# Altium schematic symbol library jlcpcb_2025_04_ferrites_extended_1806.schlib: 23 symbols
Pins are listed as number, name and electrical type; pins without a type are passive.

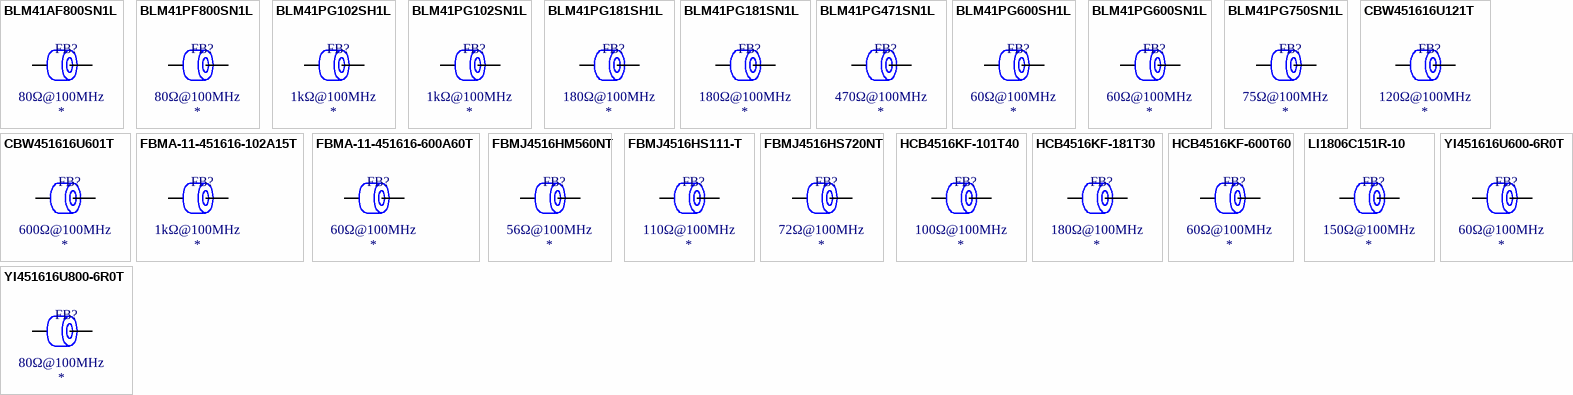
[diagram p0: symbols BLM41AF800SN1L to YI451616U800-6R0T]

## BLM41AF800SN1L
designator FB?  Impedance @ Frequency: 80Ω@100MHz
Ferrite, 80Ω@100MHz, ±25%, SMD 1806; Manufacturer: Murata Electronics; Manufacturer Part Number: BLM41AF800SN1L; Package Size: 1806; JLCPCB Basic Part: No; JLCPCB Part Number: C88998; Supplier 1: LCSC; Category: Ferrite Beads; Supplier Part Number 1: C88998; Tolerance: ±25%; RoHS: Yes; ComponentLink1Description: Datasheet; ComponentLink1URL: https://wmsc.lcsc.com/wmsc/upload/file/pdf/v2/lcsc/2008241132_Murata-Electronics-BLM41AF800SN1L_C88998.pdf; ComponentLink2Description: JLCPCB Part URL; ComponentLink2URL: https://jlcpcb.com/partdetail/C88998; ComponentLink3Description: LCSC Part URL; ComponentLink3URL: https://lcsc.com/product-detail/Ferrite-Beads_Murata-Electronics-Murata-Electronics-BLM41AF800SN1L_C88998.html
pins: 1, 2

## BLM41PF800SN1L
designator FB?  Impedance @ Frequency: 80Ω@100MHz
Ferrite, 80Ω@100MHz, ±25%, 10mΩ, 1A, SMD 1806; Manufacturer: Murata Electronics; Manufacturer Part Number: BLM41PF800SN1L; Package Size: 1806; JLCPCB Basic Part: No; JLCPCB Part Number: C85842; Supplier 1: LCSC; Category: Ferrite Beads; Supplier Part Number 1: C85842; Tolerance: ±25%; Rated Current: 1A; DC Resistance: 10mΩ; RoHS: Yes; ComponentLink1Description: Datasheet; ComponentLink1URL: https://wmsc.lcsc.com/wmsc/upload/file/pdf/v2/lcsc/1810071632_Murata-Electronics-BLM41PF800SN1L_C85842.pdf; ComponentLink2Description: JLCPCB Part URL; ComponentLink2URL: https://jlcpcb.com/partdetail/C85842; ComponentLink3Description: LCSC Part URL; ComponentLink3URL: https://lcsc.com/product-detail/Ferrite-Beads_Murata-Electronics-Murata-Electronics-BLM41PF800SN1L_C85842.html
footprint FB-1806 (1806 (4516M) Ferrite)
pins: 1, 2

## BLM41PG102SH1L
designator FB?  Impedance @ Frequency: 1kΩ@100MHz
Ferrite, 1kΩ@100MHz, ±25%, 90mΩ, 1.5A, SMD 1806; Manufacturer: Murata Electronics; Manufacturer Part Number: BLM41PG102SH1L; Package Size: 1806; JLCPCB Basic Part: No; JLCPCB Part Number: C417120; Supplier 1: LCSC; Category: Ferrite Beads; Supplier Part Number 1: C417120; Tolerance: ±25%; Rated Current: 1.5A; DC Resistance: 90mΩ; RoHS: Yes; ComponentLink1Description: Datasheet; ComponentLink1URL: https://wmsc.lcsc.com/wmsc/upload/file/pdf/v2/lcsc/2001161131_Murata-Electronics-BLM41PG102SH1L_C417120.pdf; ComponentLink2Description: JLCPCB Part URL; ComponentLink2URL: https://jlcpcb.com/partdetail/C417120; ComponentLink3Description: LCSC Part URL; ComponentLink3URL: https://lcsc.com/product-detail/Ferrite-Beads_Murata-Electronics-Murata-Electronics-BLM41PG102SH1L_C417120.html
footprint FB-1806 (1806 (4516M) Ferrite)
pins: 1, 2

## BLM41PG102SN1L
designator FB?  Impedance @ Frequency: 1kΩ@100MHz
Ferrite, 1kΩ@100MHz, ±25%, 90mΩ, 1.5A, SMD 1806; Manufacturer: Murata Electronics; Manufacturer Part Number: BLM41PG102SN1L; Package Size: 1806; JLCPCB Basic Part: No; JLCPCB Part Number: C88999; Supplier 1: LCSC; Category: Ferrite Beads; Supplier Part Number 1: C88999; Tolerance: ±25%; Rated Current: 1.5A; DC Resistance: 90mΩ; RoHS: Yes; ComponentLink1Description: Datasheet; ComponentLink1URL: https://wmsc.lcsc.com/wmsc/upload/file/pdf/v2/lcsc/1808132354_Murata-Electronics-BLM41PG102SN1L_C88999.pdf; ComponentLink2Description: JLCPCB Part URL; ComponentLink2URL: https://jlcpcb.com/partdetail/C88999; ComponentLink3Description: LCSC Part URL; ComponentLink3URL: https://lcsc.com/product-detail/Ferrite-Beads_Murata-Electronics-Murata-Electronics-BLM41PG102SN1L_C88999.html
footprint FB-1806 (1806 (4516M) Ferrite)
pins: 1, 2

## BLM41PG181SH1L
designator FB?  Impedance @ Frequency: 180Ω@100MHz
Ferrite, 180Ω@100MHz, ±25%, 20mΩ, 3.5A, SMD 1806; Manufacturer: Murata Electronics; Manufacturer Part Number: BLM41PG181SH1L; Package Size: 1806; JLCPCB Basic Part: No; JLCPCB Part Number: C710526; Supplier 1: LCSC; Category: Ferrite Beads; Supplier Part Number 1: C710526; Tolerance: ±25%; Rated Current: 3.5A; DC Resistance: 20mΩ; RoHS: Yes; ComponentLink1Description: Datasheet; ComponentLink1URL: https://wmsc.lcsc.com/wmsc/upload/file/pdf/v2/lcsc/2101201911_Murata-Electronics-BLM41PG181SH1L_C710526.pdf; ComponentLink2Description: JLCPCB Part URL; ComponentLink2URL: https://jlcpcb.com/partdetail/C710526; ComponentLink3Description: LCSC Part URL; ComponentLink3URL: https://lcsc.com/product-detail/Ferrite-Beads_Murata-Electronics-Murata-Electronics-BLM41PG181SH1L_C710526.html
footprint FB-1806 (1806 (4516M) Ferrite)
pins: 1, 2

## BLM41PG181SN1L
designator FB?  Impedance @ Frequency: 180Ω@100MHz
Ferrite, 180Ω@100MHz, ±25%, 20mΩ, 3.5A, SMD 1806; Manufacturer: Murata Electronics; Manufacturer Part Number: BLM41PG181SN1L; Package Size: 1806; JLCPCB Basic Part: No; JLCPCB Part Number: C85843; Supplier 1: LCSC; Category: Ferrite Beads; Supplier Part Number 1: C85843; Tolerance: ±25%; Rated Current: 3.5A; DC Resistance: 20mΩ; RoHS: Yes; ComponentLink1Description: Datasheet; ComponentLink1URL: https://wmsc.lcsc.com/wmsc/upload/file/pdf/v2/lcsc/2304140030_Murata-Electronics-BLM41PG181SN1L_C85843.pdf; ComponentLink2Description: JLCPCB Part URL; ComponentLink2URL: https://jlcpcb.com/partdetail/C85843; ComponentLink3Description: LCSC Part URL; ComponentLink3URL: https://lcsc.com/product-detail/Ferrite-Beads_Murata-Electronics-Murata-Electronics-BLM41PG181SN1L_C85843.html
footprint FB-1806 (1806 (4516M) Ferrite)
pins: 1, 2

## BLM41PG471SN1L
designator FB?  Impedance @ Frequency: 470Ω@100MHz
Ferrite, 470Ω@100MHz, ±25%, 50mΩ, 2A, SMD 1806; Manufacturer: Murata Electronics; Manufacturer Part Number: BLM41PG471SN1L; Package Size: 1806; JLCPCB Basic Part: No; JLCPCB Part Number: C88220; Supplier 1: LCSC; Category: Ferrite Beads; Supplier Part Number 1: C88220; Tolerance: ±25%; Rated Current: 2A; DC Resistance: 50mΩ; RoHS: Yes; ComponentLink1Description: Datasheet; ComponentLink1URL: https://wmsc.lcsc.com/wmsc/upload/file/pdf/v2/lcsc/2304140030_Murata-Electronics-BLM41PG471SN1L_C88220.pdf; ComponentLink2Description: JLCPCB Part URL; ComponentLink2URL: https://jlcpcb.com/partdetail/C88220; ComponentLink3Description: LCSC Part URL; ComponentLink3URL: https://lcsc.com/product-detail/Ferrite-Beads_Murata-Electronics-Murata-Electronics-BLM41PG471SN1L_C88220.html
footprint FB-1806 (1806 (4516M) Ferrite)
pins: 1, 2

## BLM41PG600SH1L
designator FB?  Impedance @ Frequency: 60Ω@100MHz
Ferrite, 60Ω@100MHz, ±25%, 9mΩ, 6A, SMD 1806; Manufacturer: Murata Electronics; Manufacturer Part Number: BLM41PG600SH1L; Package Size: 1806; JLCPCB Basic Part: No; JLCPCB Part Number: C307594; Supplier 1: LCSC; Category: Ferrite Beads; Supplier Part Number 1: C307594; Tolerance: ±25%; Rated Current: 6A; DC Resistance: 9mΩ; RoHS: Yes; ComponentLink1Description: Datasheet; ComponentLink1URL: https://wmsc.lcsc.com/wmsc/upload/file/pdf/v2/lcsc/1810311511_Murata-Electronics-BLM41PG600SH1L_C307594.pdf; ComponentLink2Description: JLCPCB Part URL; ComponentLink2URL: https://jlcpcb.com/partdetail/C307594; ComponentLink3Description: LCSC Part URL; ComponentLink3URL: https://lcsc.com/product-detail/Ferrite-Beads_Murata-Electronics-Murata-Electronics-BLM41PG600SH1L_C307594.html
footprint FB-1806 (1806 (4516M) Ferrite)
pins: 1, 2

## BLM41PG600SN1L
designator FB?  Impedance @ Frequency: 60Ω@100MHz
Ferrite, 60Ω@100MHz, ±25%, 9mΩ, 6A, SMD 1806; Manufacturer: Murata Electronics; Manufacturer Part Number: BLM41PG600SN1L; Package Size: 1806; JLCPCB Basic Part: No; JLCPCB Part Number: C85844; Supplier 1: LCSC; Category: Ferrite Beads; Supplier Part Number 1: C85844; Tolerance: ±25%; Rated Current: 6A; DC Resistance: 9mΩ; RoHS: Yes; ComponentLink1Description: Datasheet; ComponentLink1URL: https://wmsc.lcsc.com/wmsc/upload/file/pdf/v2/lcsc/2304140030_Murata-Electronics-BLM41PG600SN1L_C85844.pdf; ComponentLink2Description: JLCPCB Part URL; ComponentLink2URL: https://jlcpcb.com/partdetail/C85844; ComponentLink3Description: LCSC Part URL; ComponentLink3URL: https://lcsc.com/product-detail/Ferrite-Beads_Murata-Electronics-Murata-Electronics-BLM41PG600SN1L_C85844.html
footprint FB-1806 (1806 (4516M) Ferrite)
pins: 1, 2

## BLM41PG750SN1L
designator FB?  Impedance @ Frequency: 75Ω@100MHz
Ferrite, 75Ω@100MHz, ±25%, 15mΩ, 3.5A, SMD 1806; Manufacturer: Murata Electronics; Manufacturer Part Number: BLM41PG750SN1L; Package Size: 1806; JLCPCB Basic Part: No; JLCPCB Part Number: C14586; Supplier 1: LCSC; Category: Ferrite Beads; Supplier Part Number 1: C14586; Tolerance: ±25%; Rated Current: 3.5A; DC Resistance: 15mΩ; RoHS: Yes; ComponentLink1Description: Datasheet; ComponentLink1URL: https://wmsc.lcsc.com/wmsc/upload/file/pdf/v2/lcsc/2304140030_Murata-Electronics-BLM41PG750SN1L_C14586.pdf; ComponentLink2Description: JLCPCB Part URL; ComponentLink2URL: https://jlcpcb.com/partdetail/C14586; ComponentLink3Description: LCSC Part URL; ComponentLink3URL: https://lcsc.com/product-detail/Ferrite-Beads_Murata-Electronics-Murata-Electronics-BLM41PG750SN1L_C14586.html
footprint FB-1806 (1806 (4516M) Ferrite)
pins: 1, 2

## CBW451616U121T
designator FB?  Impedance @ Frequency: 120Ω@100MHz
Ferrite, 120Ω@100MHz, ±25%, 100mΩ, 3A, SMD 1806; Manufacturer: FH (Guangdong Fenghua Advanced Tech); Manufacturer Part Number: CBW451616U121T; Package Size: 1806; JLCPCB Basic Part: No; JLCPCB Part Number: C5344415; Supplier 1: LCSC; Category: Ferrite Beads; Supplier Part Number 1: C5344415; Tolerance: ±25%; Rated Current: 3A; DC Resistance: 100mΩ; RoHS: Yes; ComponentLink1Description: Datasheet; ComponentLink1URL: https://wmsc.lcsc.com/wmsc/upload/file/pdf/v2/lcsc/2212281730_FH--Guangdong-Fenghua-Advanced-Tech-CBW451616U121T_C5344415.pdf; ComponentLink2Description: JLCPCB Part URL; ComponentLink2URL: https://jlcpcb.com/partdetail/C5344415; ComponentLink3Description: LCSC Part URL; ComponentLink3URL: https://lcsc.com/product-detail/Ferrite-Beads_FH-Guangdong-Fenghua-Advanced-Tech-FH-Guangdong-Fenghua-Advanced-Tech-CBW451616U121T_C5344415.html
footprint FB-1806 (1806 (4516M) Ferrite)
pins: 1, 2

## CBW451616U601T
designator FB?  Impedance @ Frequency: 600Ω@100MHz
Ferrite, 600Ω@100MHz, ±25%, 0.3Ω, 1000mA, SMD 1806; Manufacturer: FH (Guangdong Fenghua Advanced Tech); Manufacturer Part Number: CBW451616U601T; Package Size: 1806; JLCPCB Basic Part: No; JLCPCB Part Number: C5344420; Supplier 1: LCSC; Category: Ferrite Beads; Supplier Part Number 1: C5344420; Tolerance: ±25%; Rated Current: 1000mA; DC Resistance: 0.3Ω; RoHS: Yes; ComponentLink1Description: Datasheet; ComponentLink1URL: https://wmsc.lcsc.com/wmsc/upload/file/pdf/v2/lcsc/2212281730_FH--Guangdong-Fenghua-Advanced-Tech-CBW451616U601T_C5344420.pdf; ComponentLink2Description: JLCPCB Part URL; ComponentLink2URL: https://jlcpcb.com/partdetail/C5344420; ComponentLink3Description: LCSC Part URL; ComponentLink3URL: https://lcsc.com/product-detail/Ferrite-Beads_FH-Guangdong-Fenghua-Advanced-Tech-FH-Guangdong-Fenghua-Advanced-Tech-CBW451616U601T_C5344420.html
footprint FB-1806 (1806 (4516M) Ferrite)
pins: 1, 2

## FBMA-11-451616-102A15T
designator FB?  Impedance @ Frequency: 1kΩ@100MHz
Ferrite, 1kΩ@100MHz, ±25%, 90mΩ, 1.5A, SMD 1806; Manufacturer: Kingcore; Manufacturer Part Number: FBMA-11-451616-102A15T; Package Size: 1806; JLCPCB Basic Part: No; JLCPCB Part Number: C491656; Supplier 1: LCSC; Category: Ferrite Beads; Supplier Part Number 1: C491656; Tolerance: ±25%; Rated Current: 1.5A; DC Resistance: 90mΩ; RoHS: Yes; ComponentLink1Description: Datasheet; ComponentLink1URL: https://datasheet.lcsc.com/lcsc/2003182012_Kingcore-FBMA-11-451616-102A15T_C491656.pdf; ComponentLink2Description: JLCPCB Part URL; ComponentLink2URL: https://jlcpcb.com/partdetail/C491656; ComponentLink3Description: LCSC Part URL; ComponentLink3URL: https://lcsc.com/product-detail/Ferrite-Beads_Kingcore-Kingcore-FBMA-11-451616-102A15T_C491656.html
footprint FB-1806 (1806 (4516M) Ferrite)
pins: 1, 2

## FBMA-11-451616-600A60T
designator FB?  Impedance @ Frequency: 60Ω@100MHz
Ferrite, 60Ω@100MHz, ±25%, 10mΩ, 6A, SMD 1806; Manufacturer: Kingcore; Manufacturer Part Number: FBMA-11-451616-600A60T; Package Size: 1806; JLCPCB Basic Part: No; JLCPCB Part Number: C491649; Supplier 1: LCSC; Category: Ferrite Beads; Supplier Part Number 1: C491649; Tolerance: ±25%; Rated Current: 6A; DC Resistance: 10mΩ; RoHS: Yes; ComponentLink1Description: Datasheet; ComponentLink1URL: https://datasheet.lcsc.com/lcsc/2003182012_Kingcore-FBMA-11-451616-600A60T_C491649.pdf; ComponentLink2Description: JLCPCB Part URL; ComponentLink2URL: https://jlcpcb.com/partdetail/C491649; ComponentLink3Description: LCSC Part URL; ComponentLink3URL: https://lcsc.com/product-detail/Ferrite-Beads_Kingcore-Kingcore-FBMA-11-451616-600A60T_C491649.html
footprint FB-1806 (1806 (4516M) Ferrite)
pins: 1, 2

## FBMJ4516HM560NT
designator FB?  Impedance @ Frequency: 56Ω@100MHz
Ferrite, 56Ω@100MHz, ±30%, 7mΩ, 6A, SMD 1806; Manufacturer: Taiyo Yuden; Manufacturer Part Number: FBMJ4516HM560NT; Package Size: 1806; JLCPCB Basic Part: No; JLCPCB Part Number: C92888; Supplier 1: LCSC; Category: Ferrite Beads; Supplier Part Number 1: C92888; Tolerance: ±30%; Rated Current: 6A; DC Resistance: 7mΩ; RoHS: Yes; ComponentLink1Description: Datasheet; ComponentLink1URL: https://wmsc.lcsc.com/wmsc/upload/file/pdf/v2/lcsc/1806101618_Taiyo-Yuden-FBMJ4516HM560NT_C92888.pdf; ComponentLink2Description: JLCPCB Part URL; ComponentLink2URL: https://jlcpcb.com/partdetail/C92888; ComponentLink3Description: LCSC Part URL; ComponentLink3URL: https://lcsc.com/product-detail/Ferrite-Beads_Taiyo-Yuden-Taiyo-Yuden-FBMJ4516HM560NT_C92888.html
footprint FB-1806 (1806 (4516M) Ferrite)
pins: 1, 2

## FBMJ4516HS111-T
designator FB?  Impedance @ Frequency: 110Ω@100MHz
Ferrite, 110Ω@100MHz, ±25%, 0.014Ω, 4A, SMD 1806; Manufacturer: Taiyo Yuden; Manufacturer Part Number: FBMJ4516HS111-T; Package Size: 1806; JLCPCB Basic Part: No; JLCPCB Part Number: C2661494; Supplier 1: LCSC; Category: Ferrite Beads; Supplier Part Number 1: C2661494; Tolerance: ±25%; Rated Current: 4A; DC Resistance: 0.014Ω; RoHS: Yes; ComponentLink1Description: Datasheet; ComponentLink1URL: https://wmsc.lcsc.com/wmsc/upload/file/pdf/v2/lcsc/2309051352_Taiyo-Yuden-FBMJ4516HS111-T_C2661494.pdf; ComponentLink2Description: JLCPCB Part URL; ComponentLink2URL: https://jlcpcb.com/partdetail/C2661494; ComponentLink3Description: LCSC Part URL; ComponentLink3URL: https://lcsc.com/product-detail/Ferrite-Beads_Taiyo-Yuden-Taiyo-Yuden-FBMJ4516HS111-T_C2661494.html
footprint FB-1806 (1806 (4516M) Ferrite)
pins: 1, 2

## FBMJ4516HS720NT
designator FB?  Impedance @ Frequency: 72Ω@100MHz
Ferrite, 72Ω@100MHz, ±30%, 7mΩ, 6A, SMD 1806; Manufacturer: Taiyo Yuden; Manufacturer Part Number: FBMJ4516HS720NT; Package Size: 1806; JLCPCB Basic Part: No; JLCPCB Part Number: C92890; Supplier 1: LCSC; Category: Ferrite Beads; Supplier Part Number 1: C92890; Tolerance: ±30%; Rated Current: 6A; DC Resistance: 7mΩ; RoHS: Yes; ComponentLink1Description: Datasheet; ComponentLink1URL: https://wmsc.lcsc.com/wmsc/upload/file/pdf/v2/lcsc/1804240630_Taiyo-Yuden-FBMJ4516HS720NT_C92890.pdf; ComponentLink2Description: JLCPCB Part URL; ComponentLink2URL: https://jlcpcb.com/partdetail/C92890; ComponentLink3Description: LCSC Part URL; ComponentLink3URL: https://lcsc.com/product-detail/Ferrite-Beads_Taiyo-Yuden-Taiyo-Yuden-FBMJ4516HS720NT_C92890.html
footprint FB-1806 (1806 (4516M) Ferrite)
pins: 1, 2

## HCB4516KF-101T40
designator FB?  Impedance @ Frequency: 100Ω@100MHz
Ferrite, 100Ω@100MHz, ±25%, 30mΩ, 4A, SMD 1806; Manufacturer: TAI-TECH; Manufacturer Part Number: HCB4516KF-101T40; Package Size: 1806; JLCPCB Basic Part: No; JLCPCB Part Number: C525678; Supplier 1: LCSC; Category: Ferrite Beads; Supplier Part Number 1: C525678; Tolerance: ±25%; Rated Current: 4A; DC Resistance: 30mΩ; RoHS: Yes; ComponentLink1Description: Datasheet; ComponentLink1URL: https://wmsc.lcsc.com/wmsc/upload/file/pdf/v2/lcsc/2009171443_TAI-TECH-HCB4516KF-101T40_C525678.pdf; ComponentLink2Description: JLCPCB Part URL; ComponentLink2URL: https://jlcpcb.com/partdetail/C525678; ComponentLink3Description: LCSC Part URL; ComponentLink3URL: https://lcsc.com/product-detail/Ferrite-Beads_TAI-TECH-TAI-TECH-HCB4516KF-101T40_C525678.html
footprint FB-1806 (1806 (4516M) Ferrite)
pins: 1, 2

## HCB4516KF-181T30
designator FB?  Impedance @ Frequency: 180Ω@100MHz
Ferrite, 180Ω@100MHz, ±25%, 40mΩ, 3A, SMD 1806; Manufacturer: TAI-TECH; Manufacturer Part Number: HCB4516KF-181T30; Package Size: 1806; JLCPCB Basic Part: No; JLCPCB Part Number: C357025; Supplier 1: LCSC; Category: Ferrite Beads; Supplier Part Number 1: C357025; Tolerance: ±25%; Rated Current: 3A; DC Resistance: 40mΩ; RoHS: Yes; ComponentLink1Description: Datasheet; ComponentLink1URL: https://wmsc.lcsc.com/wmsc/upload/file/pdf/v2/lcsc/2009171204_TAI-TECH-HCB4516KF-181T30_C357025.pdf; ComponentLink2Description: JLCPCB Part URL; ComponentLink2URL: https://jlcpcb.com/partdetail/C357025; ComponentLink3Description: LCSC Part URL; ComponentLink3URL: https://lcsc.com/product-detail/Ferrite-Beads_TAI-TECH-TAI-TECH-HCB4516KF-181T30_C357025.html
footprint FB-1806 (1806 (4516M) Ferrite)
pins: 1, 2

## HCB4516KF-600T60
designator FB?  Impedance @ Frequency: 60Ω@100MHz
Ferrite, 60Ω@100MHz, ±25%, 10mΩ, 6A, SMD 1806; Manufacturer: TAI-TECH; Manufacturer Part Number: HCB4516KF-600T60; Package Size: 1806; JLCPCB Basic Part: No; JLCPCB Part Number: C357026; Supplier 1: LCSC; Category: Ferrite Beads; Supplier Part Number 1: C357026; Tolerance: ±25%; Rated Current: 6A; DC Resistance: 10mΩ; RoHS: Yes; ComponentLink1Description: Datasheet; ComponentLink1URL: https://wmsc.lcsc.com/wmsc/upload/file/pdf/v2/lcsc/2009171204_TAI-TECH-HCB4516KF-600T60_C357026.pdf; ComponentLink2Description: JLCPCB Part URL; ComponentLink2URL: https://jlcpcb.com/partdetail/C357026; ComponentLink3Description: LCSC Part URL; ComponentLink3URL: https://lcsc.com/product-detail/Ferrite-Beads_TAI-TECH-TAI-TECH-HCB4516KF-600T60_C357026.html
footprint FB-1806 (1806 (4516M) Ferrite)
pins: 1, 2

## LI1806C151R-10
designator FB?  Impedance @ Frequency: 150Ω@100MHz
Ferrite, 150Ω@100MHz, 500mΩ, SMD 1806; Manufacturer: Laird-Signal(Laird Tech); Manufacturer Part Number: LI1806C151R-10; Package Size: 1806; JLCPCB Basic Part: No; JLCPCB Part Number: C3764417; Supplier 1: LCSC; Category: Ferrite Beads; Supplier Part Number 1: C3764417; DC Resistance: 500mΩ; RoHS: Yes; ComponentLink1Description: Datasheet; ComponentLink1URL: https://wmsc.lcsc.com/wmsc/upload/file/pdf/v2/lcsc/2401161617_Laird-LI1806C151R-10_C3764417.pdf; ComponentLink2Description: JLCPCB Part URL; ComponentLink2URL: https://jlcpcb.com/partdetail/C3764417; ComponentLink3Description: LCSC Part URL; ComponentLink3URL: https://lcsc.com/product-detail/Ferrite-Beads_Laird-SignalLaird-Tech-Laird-SignalLaird-Tech-LI1806C151R-10_C3764417.html
pins: 1, 2

## YI451616U600-6R0T
designator FB?  Impedance @ Frequency: 60Ω@100MHz
Ferrite, 60Ω@100MHz, ±25%, 10mΩ, 6A, SMD 1806; Manufacturer: YJYCOIN; Manufacturer Part Number: YI451616U600-6R0T; Package Size: 1806; JLCPCB Basic Part: No; JLCPCB Part Number: C2858473; Supplier 1: LCSC; Category: Ferrite Beads; Supplier Part Number 1: C2858473; Tolerance: ±25%; Rated Current: 6A; DC Resistance: 10mΩ; RoHS: Yes; ComponentLink1Description: Datasheet; ComponentLink2Description: JLCPCB Part URL; ComponentLink2URL: https://jlcpcb.com/partdetail/C2858473; ComponentLink3Description: LCSC Part URL; ComponentLink3URL: https://lcsc.com/product-detail/Ferrite-Beads_YJYCOIN-YJYCOIN-YI451616U600-6R0T_C2858473.html
footprint FB-1806 (1806 (4516M) Ferrite)
pins: 1, 2

## YI451616U800-6R0T
designator FB?  Impedance @ Frequency: 80Ω@100MHz
Ferrite, 80Ω@100MHz, ±25%, 15mΩ, 6A, SMD 1806; Manufacturer: YJYCOIN; Manufacturer Part Number: YI451616U800-6R0T; Package Size: 1806; JLCPCB Basic Part: No; JLCPCB Part Number: C2858474; Supplier 1: LCSC; Category: Ferrite Beads; Supplier Part Number 1: C2858474; Tolerance: ±25%; Rated Current: 6A; DC Resistance: 15mΩ; RoHS: Yes; ComponentLink1Description: Datasheet; ComponentLink2Description: JLCPCB Part URL; ComponentLink2URL: https://jlcpcb.com/partdetail/C2858474; ComponentLink3Description: LCSC Part URL; ComponentLink3URL: https://lcsc.com/product-detail/Ferrite-Beads_YJYCOIN-YJYCOIN-YI451616U800-6R0T_C2858474.html
footprint FB-1806 (1806 (4516M) Ferrite)
pins: 1, 2